# EAGLE library part HD44780-LCD-MODULE-HEADER (library pimoroni)
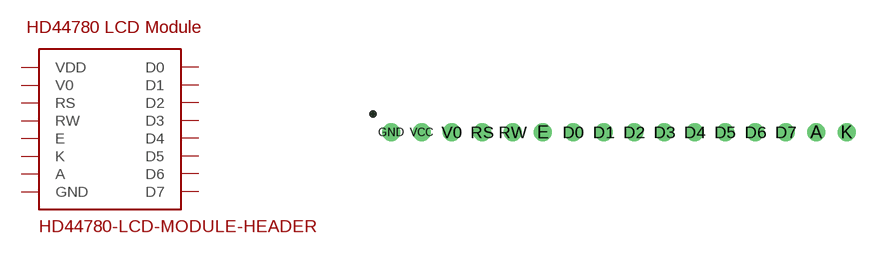
[diagram p22: symbol with the pads of HD44780-LCD-MODULE-HEADER; footprint HD44780-LCD-MODULE-HEADER]

Designator prefix -

## HD44780-LCD-MODULE-HEADER  [HD44780-LCD-MODULE-HEADER]
A  A
D0  D0
D1  D1
D2  D2
D3  D3
D4  D4
D5  D5
D6  D6
D7  D7
E  E
GND  GND
K  K
RS  RS
RW  RW
V0  V0
VCC  VDD

## Footprint HD44780-LCD-MODULE-HEADER (pad centres in mm)
drill 1: A 16.51,0; D0 -3.81,0; D1 -1.27,0; D2 1.27,0; D3 3.81,0; D4 6.35,0; D5 8.89,0; D6 11.43,0; D7 13.97,0; E -6.35,0; GND -19.05,0; K 19.05,0; RS -11.43,0; RW -8.89,0; V0 -13.97,0; VCC -16.51,0